# EAGLE library part PINHD-2X4 (library logic-supply)
PIN HEADER
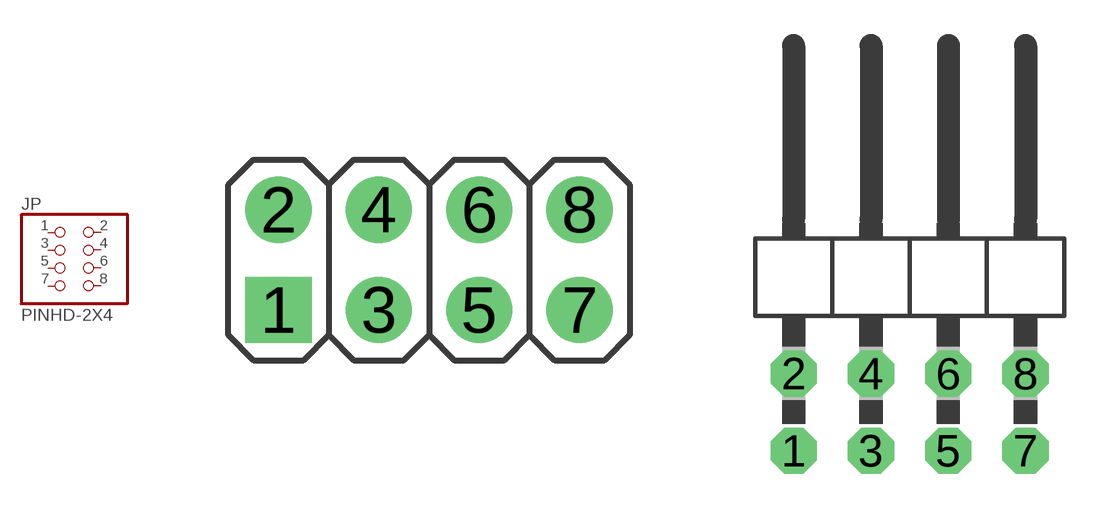
[diagram p8: symbol with the pads of HEADER_2X4; footprints HEADER_2X4, 2X04/90]

Designator prefix JP

## PINHD-2X4  [HEADER_2X4]
1  1  pas
2  2  pas
3  3  pas
4  4  pas
5  5  pas
6  6  pas
7  7  pas
8  8  pas

## PINHD-2X4/90  [2X04/90]
Pads as for HEADER_2X4

## Footprint HEADER_2X4 (pad centres in mm)
PIN HEADER
drill 1.016 pad 1.676 square: 1 0,0
drill 1.016 pad 1.676: 2 0,2.54; 3 2.54,0; 4 2.54,2.54; 5 5.08,0; 6 5.08,2.54; 7 7.62,0; 8 7.62,2.54

## Footprint 2X04/90 (pad centres in mm)
PIN HEADER
drill 1.016 octagon: 1 -3.81,-6.35; 2 -3.81,-3.81; 3 -1.27,-6.35; 4 -1.27,-3.81; 5 1.27,-6.35; 6 1.27,-3.81; 7 3.81,-6.35; 8 3.81,-3.81